# Altium integrated library L6234PD.IntLib: 1 symbol
Pins are listed as number, name and electrical type; pins without a type are passive.

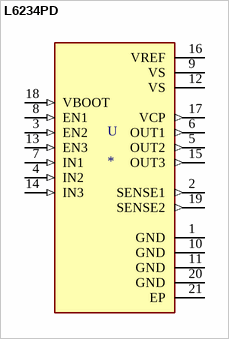
[diagram p0: symbol L6234PD]

## L6234PD
designator U
Motor Driver BiCDMOS Parallel PowerSO-20; MF: STMicroelectronics; MP: L6234PD; Package: SOIC-20 STMicroelectronics; Value: *; Availability: Unavailable; SnapEDA_Link: https://www.snapeda.com/parts/L6234PD/STMicroelectronics/view-part/161873/?ref=snap; Price: None
footprint SOIC127P1420X360-21N
pins: 1 GND (power), 2 SENSE1 (out), 3 EN2 (in), 4 IN2 (in), 5 OUT2 (out), 6 OUT1 (out), 7 IN1 (in), 8 EN1 (in), 9 VS (power), 10 GND (power), 11 GND (power), 12 VS (power), 13 EN3 (in), 14 IN3 (in), 15 OUT3 (out), 16 VREF (power), 17 VCP (out), 18 VBOOT (in), 19 SENSE2 (out), 20 GND (power), 21 EP (power)